# Altium footprint library Bluetooth.PcbLib: 1 footprints
Each footprint in its own frame and in the unit in brackets; x right, y up, seen from the top. Pads: shape width x height; smd on the part's side, far side on the other; paste and mask are expansions set on the pad; w line width, h text height; cw(c..) or ccw(c..) is an arc to the next point about the centre after c.
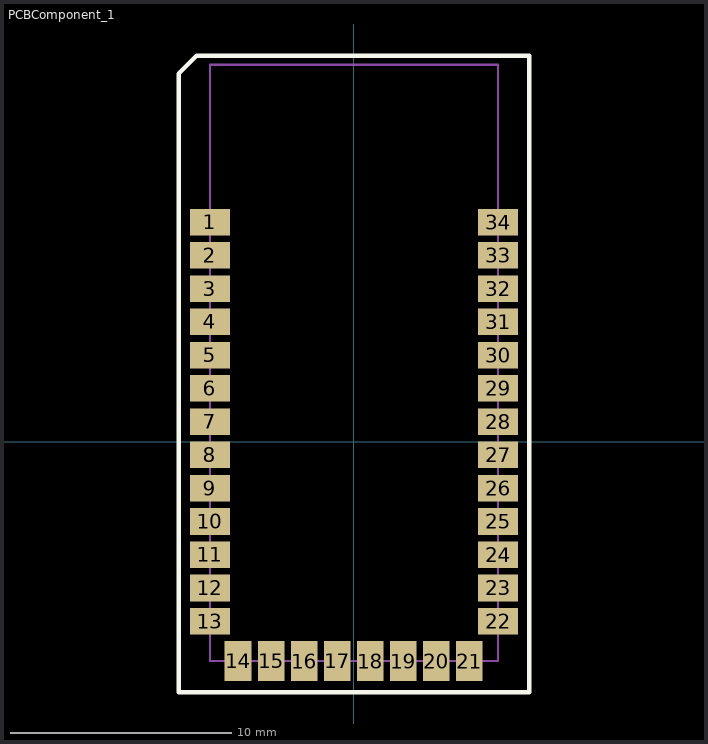
[diagram p0: the footprint, top view; thin cyan lines are the x and y axes]

## PCBComponent_1 [mm]
pads (34):
  rect 1.8x1.2 smd: 1(-6.5,9.9) 2(-6.5,8.4) 3(-6.5,6.9) 4(-6.5,5.4) 5(-6.5,3.9) 6(-6.5,2.4) 7(-6.5,0.9) 8(-6.5,-0.6) 9(-6.5,-2.1) 10(-6.5,-3.6) 11(-6.5,-5.1) 12(-6.5,-6.6) 13(-6.5,-8.1) 22(6.5,-8.1) 23(6.5,-6.6) 24(6.5,-5.1) 25(6.5,-3.6) 26(6.5,-2.1) 27(6.5,-0.6) 28(6.5,0.9) 29(6.5,2.4) 30(6.5,3.9) 31(6.5,5.4) 32(6.5,6.9) 33(6.5,8.4) 34(6.5,9.9)
  rect 1.2x1.8 smd: 14(-5.23,-9.9) 15(-3.74,-9.9) 16(-2.25,-9.9) 17(-0.76,-9.9) 18(0.73,-9.9) 19(2.22,-9.9) 20(3.71,-9.9) 21(5.2,-9.9)
Top Overlay:
  lines w0.2: -7.9,-11.3 -7.9,-3.9 -7.9,16.6 -7.1,17.4 7.9,17.4 7.9,-11.3 -7.9,-11.3
Mechanical 15:
  lines w0.1: -6.5,-9.9 -6.5,17 6.5,17 6.5,-9.9 -6.5,-9.9
3D body: height 2, standoff 0, extent -6.5,-9.9 6.5,17